# Altium schematic symbol library crystal.SchLib: 1 symbol
Pins are listed as number, name and electrical type; pins without a type are passive.

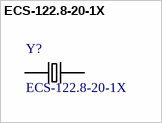
[diagram p0: symbol ECS-122.8-20-1X]

## ECS-122.8-20-1X
designator Y?
HC-49/U Microprocessor Crystals 12.288MHz 20pF; MF: ECS Inc.; Availability: Unavailable; Price: None; Package: HC49/U ECS International; SnapEDA_Link: https://www.snapeda.com/parts/ECS-122.8-20-1X/ECS%20Inc./view-part/?ref=snap; MP: ECS-122.8-20-1X; Value: *
footprint *XTAL_ECS-122.8-20-1X
pins: 1, 2